# Altium schematic symbol library NUVOTON_NUC230_240_LIBRARY_Library.SchLib: 15 symbols
Pins are listed as number, name and electrical type; pins without a type are passive.

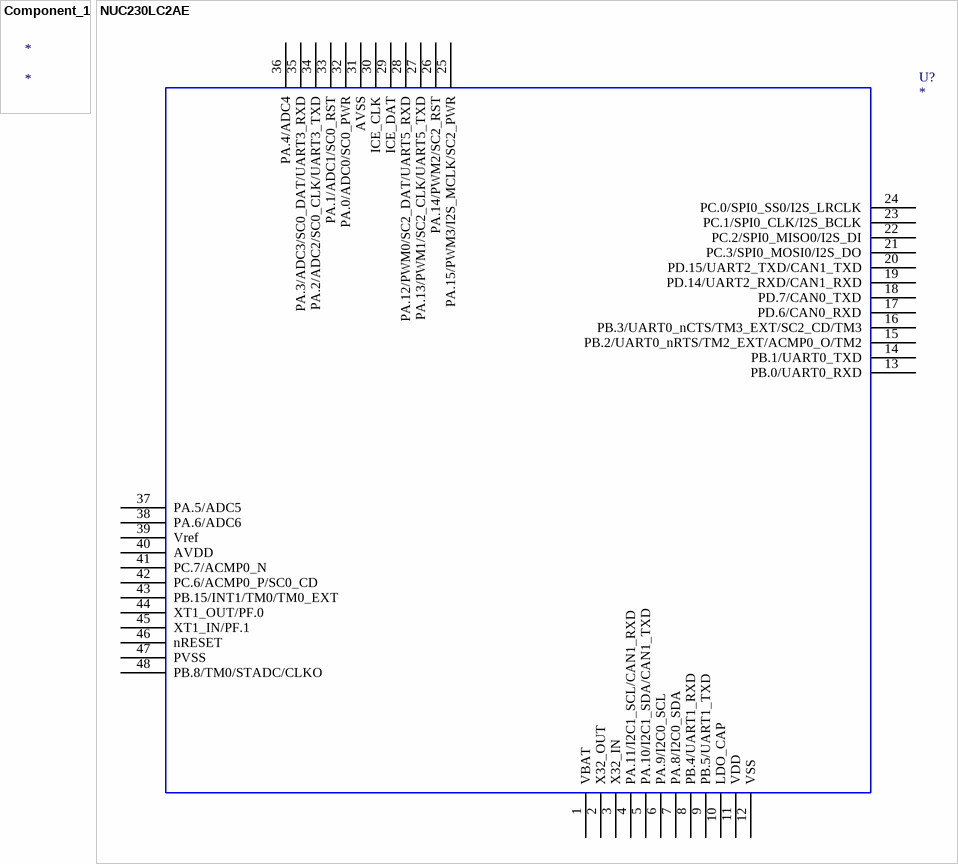
[diagram p0: symbols Component_1 to NUC230LC2AE]

## Component_1
designator *

## NUC230LC2AE
designator U?
OriginalSymbolOrigin: (0,0)
footprint MCU_LQFP_48
pins: 1 VBAT, 2 X32_OUT, 3 X32_IN, 4 PA.11/I2C1_SCL/CAN1_RXD, 5 PA.10/I2C1_SDA/CAN1_TXD, 6 PA.9/I2C0_SCL, 7 PA.8/I2C0_SDA, 8 PB.4/UART1_RXD, 9 PB.5/UART1_TXD, 10 LDO_CAP, 11 VDD, 12 VSS, 13 PB.0/UART0_RXD, 14 PB.1/UART0_TXD, 15 PB.2/UART0_nRTS/TM2_EXT/ACMP0_O/TM2, 16 PB.3/UART0_nCTS/TM3_EXT/SC2_CD/TM3, 17 PD.6/CAN0_RXD, 18 PD.7/CAN0_TXD, 19 PD.14/UART2_RXD/CAN1_RXD, 20 PD.15/UART2_TXD/CAN1_TXD, 21 PC.3/SPI0_MOSI0/I2S_DO, 22 PC.2/SPI0_MISO0/I2S_DI, 23 PC.1/SPI0_CLK/I2S_BCLK, 24 PC.0/SPI0_SS0/I2S_LRCLK, 25 PA.15/PWM3/I2S_MCLK/SC2_PWR, 26 PA.14/PWM2/SC2_RST, 27 PA.13/PWM1/SC2_CLK/UART5_TXD, 28 PA.12/PWM0/SC2_DAT/UART5_RXD, 29 ICE_DAT, 30 ICE_CLK, 31 AVSS, 32 PA.0/ADC0/SC0_PWR, 33 PA.1/ADC1/SC0_RST, 34 PA.2/ADC2/SC0_CLK/UART3_TXD, 35 PA.3/ADC3/SC0_DAT/UART3_RXD, 36 PA.4/ADC4, 37 PA.5/ADC5, 38 PA.6/ADC6, 39 Vref, 40 AVDD, 41 PC.7/ACMP0_N, 42 PC.6/ACMP0_P/SC0_CD, 43 PB.15/INT1/TM0/TM0_EXT, 44 XT1_OUT/PF.0, 45 XT1_IN/PF.1, 46 nRESET, 47 PVSS, 48 PB.8/TM0/STADC/CLKO

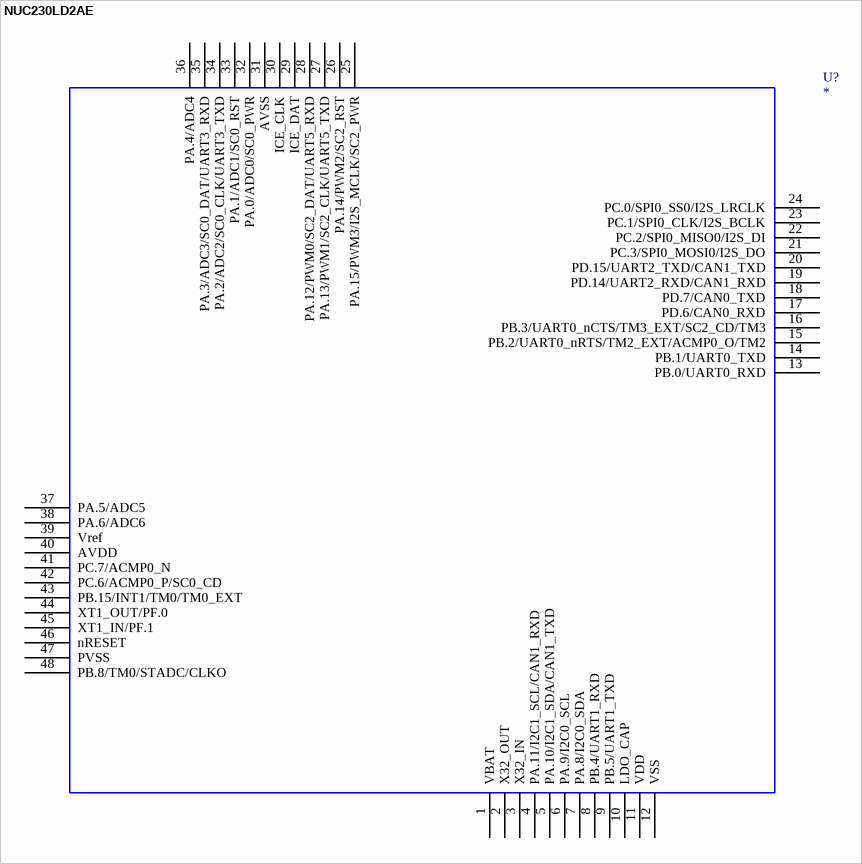
[diagram p1: symbol NUC230LD2AE]

## NUC230LD2AE
designator U?
OriginalSymbolOrigin: (0,0)
footprint MCU_LQFP_48
pins: 1 VBAT, 2 X32_OUT, 3 X32_IN, 4 PA.11/I2C1_SCL/CAN1_RXD, 5 PA.10/I2C1_SDA/CAN1_TXD, 6 PA.9/I2C0_SCL, 7 PA.8/I2C0_SDA, 8 PB.4/UART1_RXD, 9 PB.5/UART1_TXD, 10 LDO_CAP, 11 VDD, 12 VSS, 13 PB.0/UART0_RXD, 14 PB.1/UART0_TXD, 15 PB.2/UART0_nRTS/TM2_EXT/ACMP0_O/TM2, 16 PB.3/UART0_nCTS/TM3_EXT/SC2_CD/TM3, 17 PD.6/CAN0_RXD, 18 PD.7/CAN0_TXD, 19 PD.14/UART2_RXD/CAN1_RXD, 20 PD.15/UART2_TXD/CAN1_TXD, 21 PC.3/SPI0_MOSI0/I2S_DO, 22 PC.2/SPI0_MISO0/I2S_DI, 23 PC.1/SPI0_CLK/I2S_BCLK, 24 PC.0/SPI0_SS0/I2S_LRCLK, 25 PA.15/PWM3/I2S_MCLK/SC2_PWR, 26 PA.14/PWM2/SC2_RST, 27 PA.13/PWM1/SC2_CLK/UART5_TXD, 28 PA.12/PWM0/SC2_DAT/UART5_RXD, 29 ICE_DAT, 30 ICE_CLK, 31 AVSS, 32 PA.0/ADC0/SC0_PWR, 33 PA.1/ADC1/SC0_RST, 34 PA.2/ADC2/SC0_CLK/UART3_TXD, 35 PA.3/ADC3/SC0_DAT/UART3_RXD, 36 PA.4/ADC4, 37 PA.5/ADC5, 38 PA.6/ADC6, 39 Vref, 40 AVDD, 41 PC.7/ACMP0_N, 42 PC.6/ACMP0_P/SC0_CD, 43 PB.15/INT1/TM0/TM0_EXT, 44 XT1_OUT/PF.0, 45 XT1_IN/PF.1, 46 nRESET, 47 PVSS, 48 PB.8/TM0/STADC/CLKO

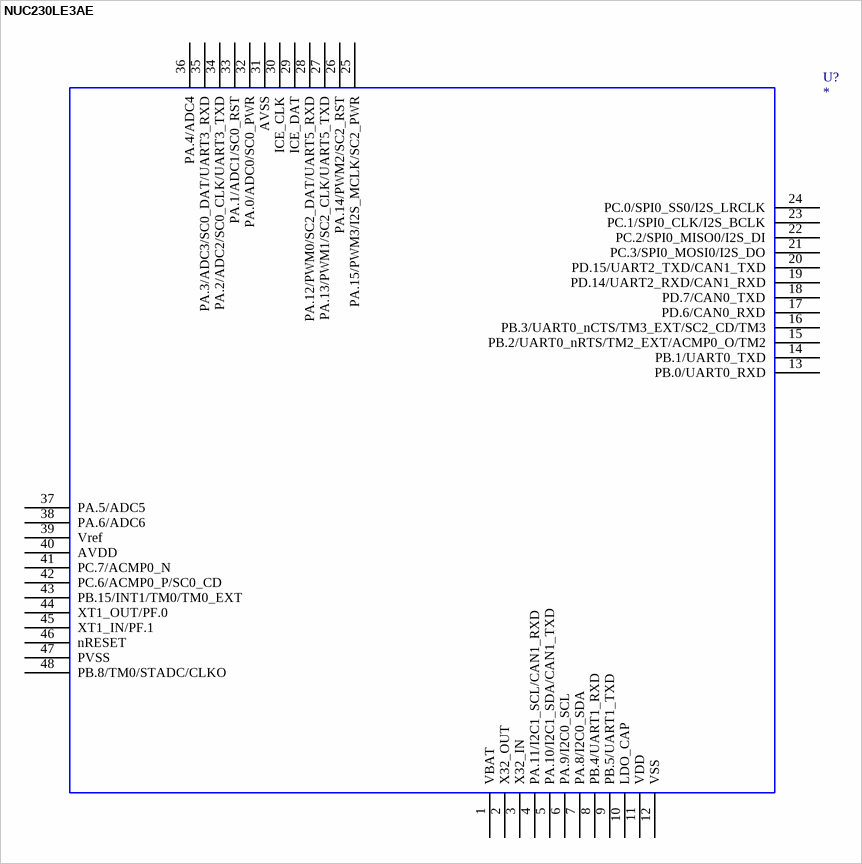
[diagram p2: symbol NUC230LE3AE]

## NUC230LE3AE
designator U?
OriginalSymbolOrigin: (0,0)
footprint MCU_LQFP_48
pins: 1 VBAT, 2 X32_OUT, 3 X32_IN, 4 PA.11/I2C1_SCL/CAN1_RXD, 5 PA.10/I2C1_SDA/CAN1_TXD, 6 PA.9/I2C0_SCL, 7 PA.8/I2C0_SDA, 8 PB.4/UART1_RXD, 9 PB.5/UART1_TXD, 10 LDO_CAP, 11 VDD, 12 VSS, 13 PB.0/UART0_RXD, 14 PB.1/UART0_TXD, 15 PB.2/UART0_nRTS/TM2_EXT/ACMP0_O/TM2, 16 PB.3/UART0_nCTS/TM3_EXT/SC2_CD/TM3, 17 PD.6/CAN0_RXD, 18 PD.7/CAN0_TXD, 19 PD.14/UART2_RXD/CAN1_RXD, 20 PD.15/UART2_TXD/CAN1_TXD, 21 PC.3/SPI0_MOSI0/I2S_DO, 22 PC.2/SPI0_MISO0/I2S_DI, 23 PC.1/SPI0_CLK/I2S_BCLK, 24 PC.0/SPI0_SS0/I2S_LRCLK, 25 PA.15/PWM3/I2S_MCLK/SC2_PWR, 26 PA.14/PWM2/SC2_RST, 27 PA.13/PWM1/SC2_CLK/UART5_TXD, 28 PA.12/PWM0/SC2_DAT/UART5_RXD, 29 ICE_DAT, 30 ICE_CLK, 31 AVSS, 32 PA.0/ADC0/SC0_PWR, 33 PA.1/ADC1/SC0_RST, 34 PA.2/ADC2/SC0_CLK/UART3_TXD, 35 PA.3/ADC3/SC0_DAT/UART3_RXD, 36 PA.4/ADC4, 37 PA.5/ADC5, 38 PA.6/ADC6, 39 Vref, 40 AVDD, 41 PC.7/ACMP0_N, 42 PC.6/ACMP0_P/SC0_CD, 43 PB.15/INT1/TM0/TM0_EXT, 44 XT1_OUT/PF.0, 45 XT1_IN/PF.1, 46 nRESET, 47 PVSS, 48 PB.8/TM0/STADC/CLKO

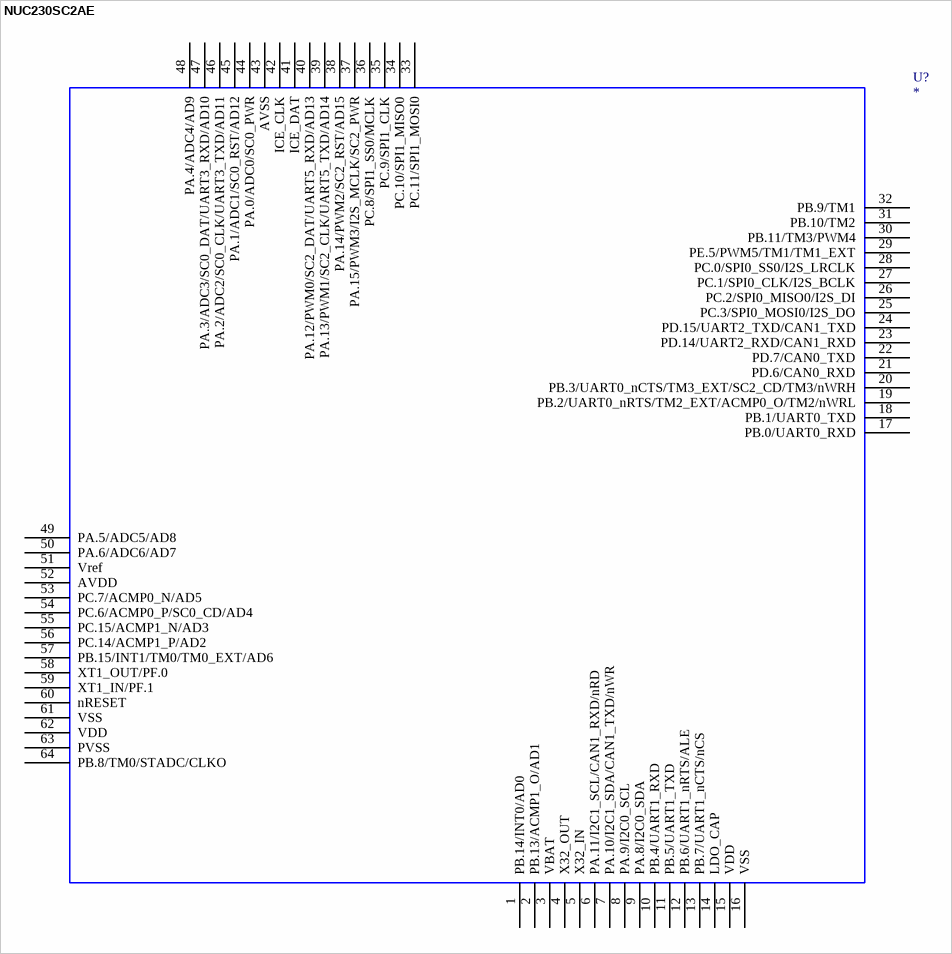
[diagram p3: symbol NUC230SC2AE]

## NUC230SC2AE
designator U?
OriginalSymbolOrigin: (0,0)
footprint MCU_LQFP_64_7x7
pins: 1 PB.14/INT0/AD0, 2 PB.13/ACMP1_O/AD1, 3 VBAT, 4 X32_OUT, 5 X32_IN, 6 PA.11/I2C1_SCL/CAN1_RXD/nRD, 7 PA.10/I2C1_SDA/CAN1_TXD/nWR, 8 PA.9/I2C0_SCL, 9 PA.8/I2C0_SDA, 10 PB.4/UART1_RXD, 11 PB.5/UART1_TXD, 12 PB.6/UART1_nRTS/ALE, 13 PB.7/UART1_nCTS/nCS, 14 LDO_CAP, 15 VDD, 16 VSS, 17 PB.0/UART0_RXD, 18 PB.1/UART0_TXD, 19 PB.2/UART0_nRTS/TM2_EXT/ACMP0_O/TM2/nWRL, 20 PB.3/UART0_nCTS/TM3_EXT/SC2_CD/TM3/nWRH, 21 PD.6/CAN0_RXD, 22 PD.7/CAN0_TXD, 23 PD.14/UART2_RXD/CAN1_RXD, 24 PD.15/UART2_TXD/CAN1_TXD, 25 PC.3/SPI0_MOSI0/I2S_DO, 26 PC.2/SPI0_MISO0/I2S_DI, 27 PC.1/SPI0_CLK/I2S_BCLK, 28 PC.0/SPI0_SS0/I2S_LRCLK, 29 PE.5/PWM5/TM1/TM1_EXT, 30 PB.11/TM3/PWM4, 31 PB.10/TM2, 32 PB.9/TM1, 33 PC.11/SPI1_MOSI0, 34 PC.10/SPI1_MISO0, 35 PC.9/SPI1_CLK, 36 PC.8/SPI1_SS0/MCLK, 37 PA.15/PWM3/I2S_MCLK/SC2_PWR, 38 PA.14/PWM2/SC2_RST/AD15, 39 PA.13/PWM1/SC2_CLK/UART5_TXD/AD14, 40 PA.12/PWM0/SC2_DAT/UART5_RXD/AD13, 41 ICE_DAT, 42 ICE_CLK, 43 AVSS, 44 PA.0/ADC0/SC0_PWR, 45 PA.1/ADC1/SC0_RST/AD12, 46 PA.2/ADC2/SC0_CLK/UART3_TXD/AD11, 47 PA.3/ADC3/SC0_DAT/UART3_RXD/AD10, 48 PA.4/ADC4/AD9, 49 PA.5/ADC5/AD8, 50 PA.6/ADC6/AD7, 51 Vref, 52 AVDD, 53 PC.7/ACMP0_N/AD5, 54 PC.6/ACMP0_P/SC0_CD/AD4, 55 PC.15/ACMP1_N/AD3, 56 PC.14/ACMP1_P/AD2, 57 PB.15/INT1/TM0/TM0_EXT/AD6, 58 XT1_OUT/PF.0, 59 XT1_IN/PF.1, 60 nRESET, 61 VSS, 62 VDD, 63 PVSS, 64 PB.8/TM0/STADC/CLKO

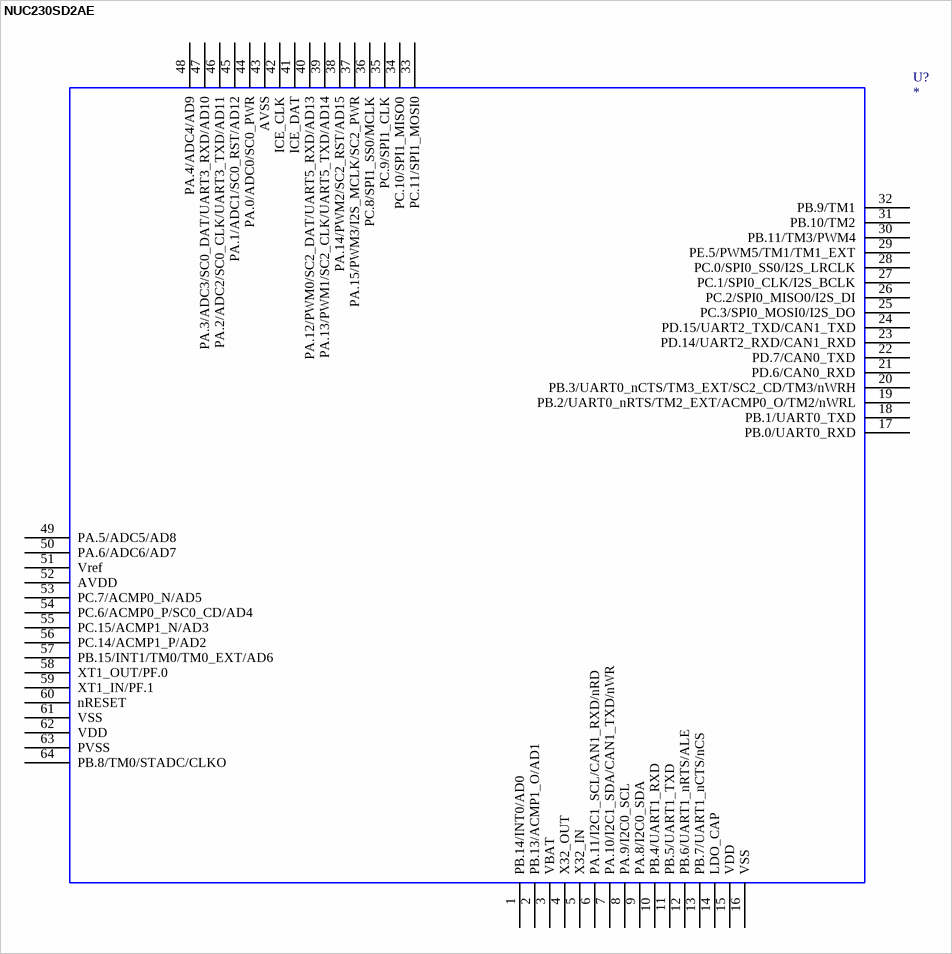
[diagram p4: symbol NUC230SD2AE]

## NUC230SD2AE
designator U?
OriginalSymbolOrigin: (0,0)
footprint MCU_LQFP_64_7x7
pins: 1 PB.14/INT0/AD0, 2 PB.13/ACMP1_O/AD1, 3 VBAT, 4 X32_OUT, 5 X32_IN, 6 PA.11/I2C1_SCL/CAN1_RXD/nRD, 7 PA.10/I2C1_SDA/CAN1_TXD/nWR, 8 PA.9/I2C0_SCL, 9 PA.8/I2C0_SDA, 10 PB.4/UART1_RXD, 11 PB.5/UART1_TXD, 12 PB.6/UART1_nRTS/ALE, 13 PB.7/UART1_nCTS/nCS, 14 LDO_CAP, 15 VDD, 16 VSS, 17 PB.0/UART0_RXD, 18 PB.1/UART0_TXD, 19 PB.2/UART0_nRTS/TM2_EXT/ACMP0_O/TM2/nWRL, 20 PB.3/UART0_nCTS/TM3_EXT/SC2_CD/TM3/nWRH, 21 PD.6/CAN0_RXD, 22 PD.7/CAN0_TXD, 23 PD.14/UART2_RXD/CAN1_RXD, 24 PD.15/UART2_TXD/CAN1_TXD, 25 PC.3/SPI0_MOSI0/I2S_DO, 26 PC.2/SPI0_MISO0/I2S_DI, 27 PC.1/SPI0_CLK/I2S_BCLK, 28 PC.0/SPI0_SS0/I2S_LRCLK, 29 PE.5/PWM5/TM1/TM1_EXT, 30 PB.11/TM3/PWM4, 31 PB.10/TM2, 32 PB.9/TM1, 33 PC.11/SPI1_MOSI0, 34 PC.10/SPI1_MISO0, 35 PC.9/SPI1_CLK, 36 PC.8/SPI1_SS0/MCLK, 37 PA.15/PWM3/I2S_MCLK/SC2_PWR, 38 PA.14/PWM2/SC2_RST/AD15, 39 PA.13/PWM1/SC2_CLK/UART5_TXD/AD14, 40 PA.12/PWM0/SC2_DAT/UART5_RXD/AD13, 41 ICE_DAT, 42 ICE_CLK, 43 AVSS, 44 PA.0/ADC0/SC0_PWR, 45 PA.1/ADC1/SC0_RST/AD12, 46 PA.2/ADC2/SC0_CLK/UART3_TXD/AD11, 47 PA.3/ADC3/SC0_DAT/UART3_RXD/AD10, 48 PA.4/ADC4/AD9, 49 PA.5/ADC5/AD8, 50 PA.6/ADC6/AD7, 51 Vref, 52 AVDD, 53 PC.7/ACMP0_N/AD5, 54 PC.6/ACMP0_P/SC0_CD/AD4, 55 PC.15/ACMP1_N/AD3, 56 PC.14/ACMP1_P/AD2, 57 PB.15/INT1/TM0/TM0_EXT/AD6, 58 XT1_OUT/PF.0, 59 XT1_IN/PF.1, 60 nRESET, 61 VSS, 62 VDD, 63 PVSS, 64 PB.8/TM0/STADC/CLKO

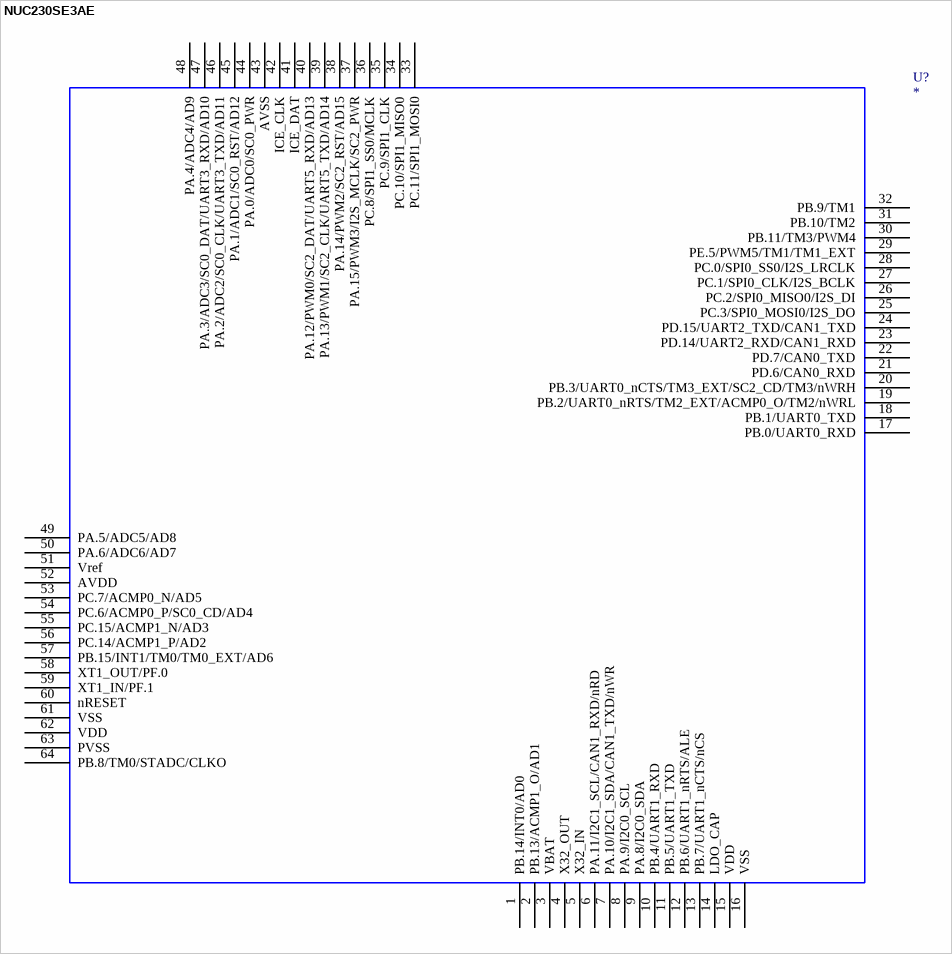
[diagram p5: symbol NUC230SE3AE]

## NUC230SE3AE
designator U?
OriginalSymbolOrigin: (0,0)
footprint MCU_LQFP_64_7x7
pins: 1 PB.14/INT0/AD0, 2 PB.13/ACMP1_O/AD1, 3 VBAT, 4 X32_OUT, 5 X32_IN, 6 PA.11/I2C1_SCL/CAN1_RXD/nRD, 7 PA.10/I2C1_SDA/CAN1_TXD/nWR, 8 PA.9/I2C0_SCL, 9 PA.8/I2C0_SDA, 10 PB.4/UART1_RXD, 11 PB.5/UART1_TXD, 12 PB.6/UART1_nRTS/ALE, 13 PB.7/UART1_nCTS/nCS, 14 LDO_CAP, 15 VDD, 16 VSS, 17 PB.0/UART0_RXD, 18 PB.1/UART0_TXD, 19 PB.2/UART0_nRTS/TM2_EXT/ACMP0_O/TM2/nWRL, 20 PB.3/UART0_nCTS/TM3_EXT/SC2_CD/TM3/nWRH, 21 PD.6/CAN0_RXD, 22 PD.7/CAN0_TXD, 23 PD.14/UART2_RXD/CAN1_RXD, 24 PD.15/UART2_TXD/CAN1_TXD, 25 PC.3/SPI0_MOSI0/I2S_DO, 26 PC.2/SPI0_MISO0/I2S_DI, 27 PC.1/SPI0_CLK/I2S_BCLK, 28 PC.0/SPI0_SS0/I2S_LRCLK, 29 PE.5/PWM5/TM1/TM1_EXT, 30 PB.11/TM3/PWM4, 31 PB.10/TM2, 32 PB.9/TM1, 33 PC.11/SPI1_MOSI0, 34 PC.10/SPI1_MISO0, 35 PC.9/SPI1_CLK, 36 PC.8/SPI1_SS0/MCLK, 37 PA.15/PWM3/I2S_MCLK/SC2_PWR, 38 PA.14/PWM2/SC2_RST/AD15, 39 PA.13/PWM1/SC2_CLK/UART5_TXD/AD14, 40 PA.12/PWM0/SC2_DAT/UART5_RXD/AD13, 41 ICE_DAT, 42 ICE_CLK, 43 AVSS, 44 PA.0/ADC0/SC0_PWR, 45 PA.1/ADC1/SC0_RST/AD12, 46 PA.2/ADC2/SC0_CLK/UART3_TXD/AD11, 47 PA.3/ADC3/SC0_DAT/UART3_RXD/AD10, 48 PA.4/ADC4/AD9, 49 PA.5/ADC5/AD8, 50 PA.6/ADC6/AD7, 51 Vref, 52 AVDD, 53 PC.7/ACMP0_N/AD5, 54 PC.6/ACMP0_P/SC0_CD/AD4, 55 PC.15/ACMP1_N/AD3, 56 PC.14/ACMP1_P/AD2, 57 PB.15/INT1/TM0/TM0_EXT/AD6, 58 XT1_OUT/PF.0, 59 XT1_IN/PF.1, 60 nRESET, 61 VSS, 62 VDD, 63 PVSS, 64 PB.8/TM0/STADC/CLKO

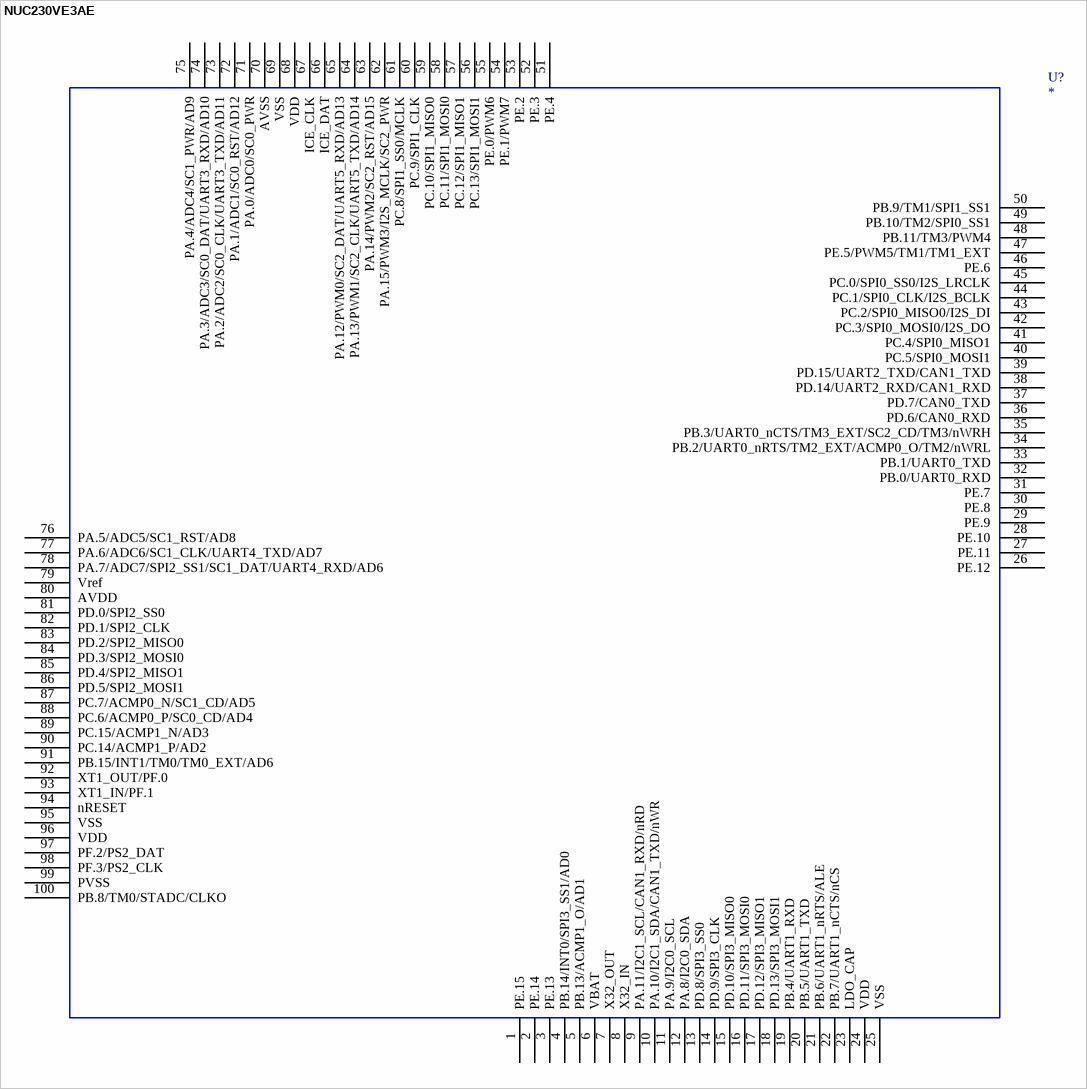
[diagram p6: symbol NUC230VE3AE]

## NUC230VE3AE
designator U?
OriginalSymbolOrigin: (0,0)
footprint MCU_LQFP_100
pins: 1 PE.15, 2 PE.14, 3 PE.13, 4 PB.14/INT0/SPI3_SS1/AD0, 5 PB.13/ACMP1_O/AD1, 6 VBAT, 7 X32_OUT, 8 X32_IN, 9 PA.11/I2C1_SCL/CAN1_RXD/nRD, 10 PA.10/I2C1_SDA/CAN1_TXD/nWR, 11 PA.9/I2C0_SCL, 12 PA.8/I2C0_SDA, 13 PD.8/SPI3_SS0, 14 PD.9/SPI3_CLK, 15 PD.10/SPI3_MISO0, 16 PD.11/SPI3_MOSI0, 17 PD.12/SPI3_MISO1, 18 PD.13/SPI3_MOSI1, 19 PB.4/UART1_RXD, 20 PB.5/UART1_TXD, 21 PB.6/UART1_nRTS/ALE, 22 PB.7/UART1_nCTS/nCS, 23 LDO_CAP, 24 VDD, 25 VSS, 26 PE.12, 27 PE.11, 28 PE.10, 29 PE.9, 30 PE.8, 31 PE.7, 32 PB.0/UART0_RXD, 33 PB.1/UART0_TXD, 34 PB.2/UART0_nRTS/TM2_EXT/ACMP0_O/TM2/nWRL, 35 PB.3/UART0_nCTS/TM3_EXT/SC2_CD/TM3/nWRH, 36 PD.6/CAN0_RXD, 37 PD.7/CAN0_TXD, 38 PD.14/UART2_RXD/CAN1_RXD, 39 PD.15/UART2_TXD/CAN1_TXD, 40 PC.5/SPI0_MOSI1, 41 PC.4/SPI0_MISO1, 42 PC.3/SPI0_MOSI0/I2S_DO, 43 PC.2/SPI0_MISO0/I2S_DI, 44 PC.1/SPI0_CLK/I2S_BCLK, 45 PC.0/SPI0_SS0/I2S_LRCLK, 46 PE.6, 47 PE.5/PWM5/TM1/TM1_EXT, 48 PB.11/TM3/PWM4, 49 PB.10/TM2/SPI0_SS1, 50 PB.9/TM1/SPI1_SS1, 51 PE.4, 52 PE.3, 53 PE.2, 54 PE.1/PWM7, 55 PE.0/PWM6, 56 PC.13/SPI1_MOSI1, 57 PC.12/SPI1_MISO1, 58 PC.11/SPI1_MOSI0, 59 PC.10/SPI1_MISO0, 60 PC.9/SPI1_CLK, 61 PC.8/SPI1_SS0/MCLK, 62 PA.15/PWM3/I2S_MCLK/SC2_PWR, 63 PA.14/PWM2/SC2_RST/AD15, 64 PA.13/PWM1/SC2_CLK/UART5_TXD/AD14, 65 PA.12/PWM0/SC2_DAT/UART5_RXD/AD13, 66 ICE_DAT, 67 ICE_CLK, 68 VDD, 69 VSS, 70 AVSS, 71 PA.0/ADC0/SC0_PWR, 72 PA.1/ADC1/SC0_RST/AD12, 73 PA.2/ADC2/SC0_CLK/UART3_TXD/AD11, 74 PA.3/ADC3/SC0_DAT/UART3_RXD/AD10, 75 PA.4/ADC4/SC1_PWR/AD9, 76 PA.5/ADC5/SC1_RST/AD8, 77 PA.6/ADC6/SC1_CLK/UART4_TXD/AD7, 78 PA.7/ADC7/SPI2_SS1/SC1_DAT/UART4_RXD/AD6, 79 Vref, 80 AVDD, 81 PD.0/SPI2_SS0, 82 PD.1/SPI2_CLK, 83 PD.2/SPI2_MISO0, 84 PD.3/SPI2_MOSI0, 85 PD.4/SPI2_MISO1, 86 PD.5/SPI2_MOSI1, 87 PC.7/ACMP0_N/SC1_CD/AD5, 88 PC.6/ACMP0_P/SC0_CD/AD4, 89 PC.15/ACMP1_N/AD3, 90 PC.14/ACMP1_P/AD2, 91 PB.15/INT1/TM0/TM0_EXT/AD6, 92 XT1_OUT/PF.0, 93 XT1_IN/PF.1, 94 nRESET, 95 VSS, 96 VDD, 97 PF.2/PS2_DAT, 98 PF.3/PS2_CLK, 99 PVSS, 100 PB.8/TM0/STADC/CLKO

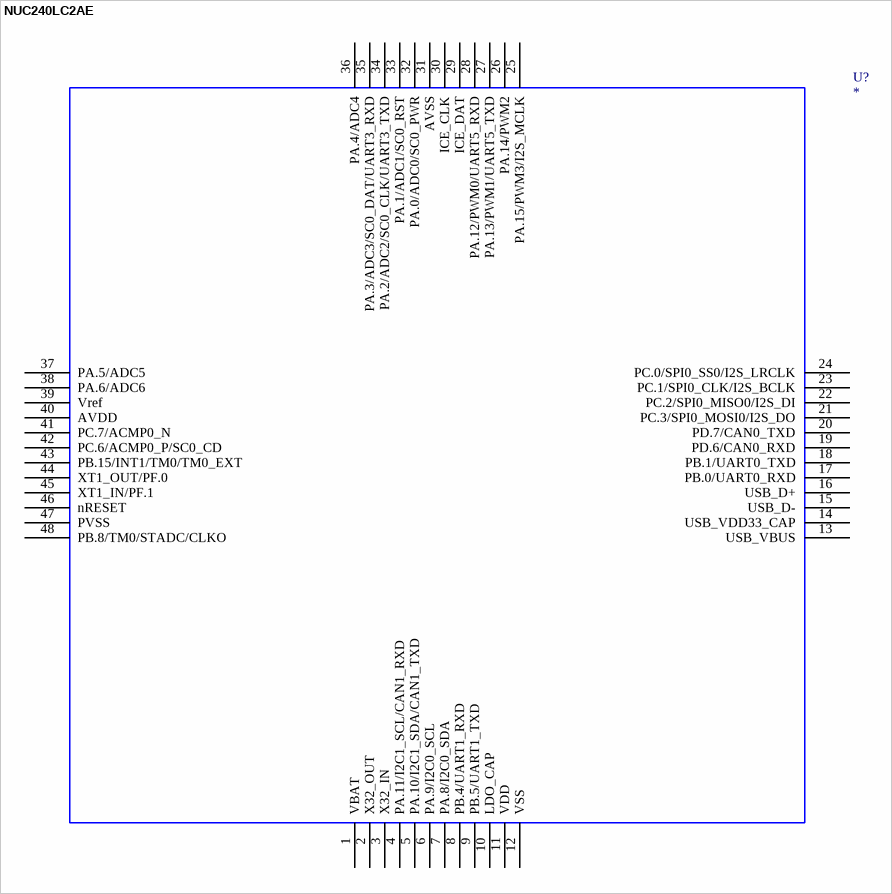
[diagram p7: symbol NUC240LC2AE]

## NUC240LC2AE
designator U?
OriginalSymbolOrigin: (0,0)
footprint MCU_LQFP_48
pins: 1 VBAT, 2 X32_OUT, 3 X32_IN, 4 PA.11/I2C1_SCL/CAN1_RXD, 5 PA.10/I2C1_SDA/CAN1_TXD, 6 PA.9/I2C0_SCL, 7 PA.8/I2C0_SDA, 8 PB.4/UART1_RXD, 9 PB.5/UART1_TXD, 10 LDO_CAP, 11 VDD, 12 VSS, 13 USB_VBUS, 14 USB_VDD33_CAP, 15 USB_D-, 16 USB_D+, 17 PB.0/UART0_RXD, 18 PB.1/UART0_TXD, 19 PD.6/CAN0_RXD, 20 PD.7/CAN0_TXD, 21 PC.3/SPI0_MOSI0/I2S_DO, 22 PC.2/SPI0_MISO0/I2S_DI, 23 PC.1/SPI0_CLK/I2S_BCLK, 24 PC.0/SPI0_SS0/I2S_LRCLK, 25 PA.15/PWM3/I2S_MCLK, 26 PA.14/PWM2, 27 PA.13/PWM1/UART5_TXD, 28 PA.12/PWM0/UART5_RXD, 29 ICE_DAT, 30 ICE_CLK, 31 AVSS, 32 PA.0/ADC0/SC0_PWR, 33 PA.1/ADC1/SC0_RST, 34 PA.2/ADC2/SC0_CLK/UART3_TXD, 35 PA.3/ADC3/SC0_DAT/UART3_RXD, 36 PA.4/ADC4, 37 PA.5/ADC5, 38 PA.6/ADC6, 39 Vref, 40 AVDD, 41 PC.7/ACMP0_N, 42 PC.6/ACMP0_P/SC0_CD, 43 PB.15/INT1/TM0/TM0_EXT, 44 XT1_OUT/PF.0, 45 XT1_IN/PF.1, 46 nRESET, 47 PVSS, 48 PB.8/TM0/STADC/CLKO

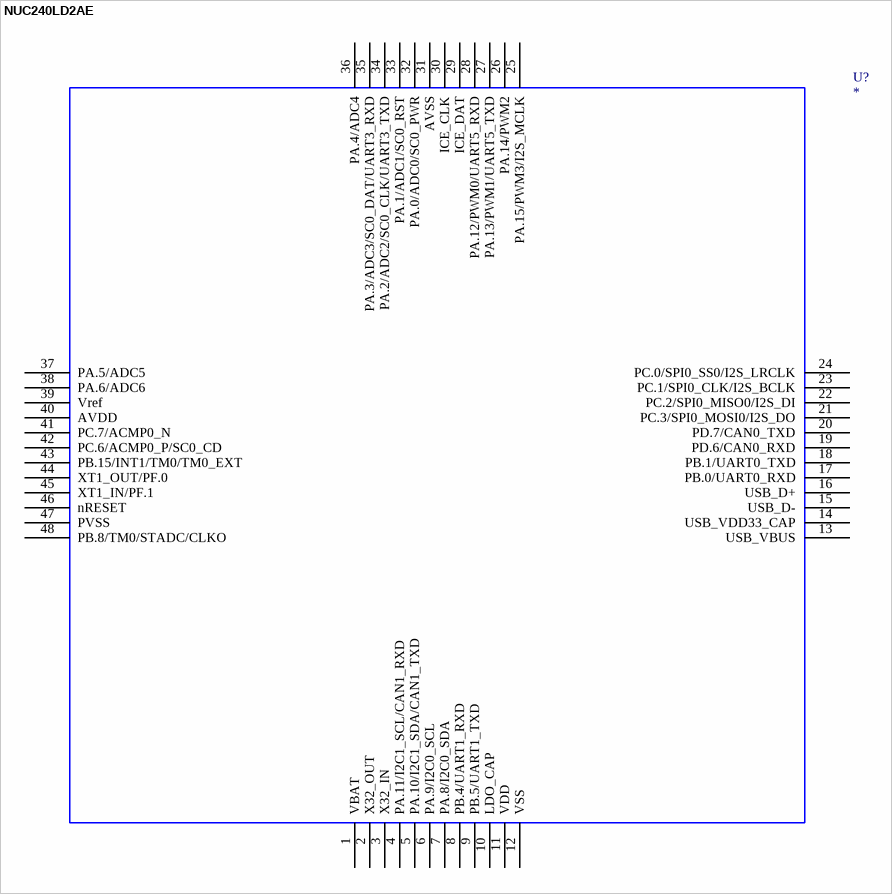
[diagram p8: symbol NUC240LD2AE]

## NUC240LD2AE
designator U?
OriginalSymbolOrigin: (0,0)
footprint MCU_LQFP_48
pins: 1 VBAT, 2 X32_OUT, 3 X32_IN, 4 PA.11/I2C1_SCL/CAN1_RXD, 5 PA.10/I2C1_SDA/CAN1_TXD, 6 PA.9/I2C0_SCL, 7 PA.8/I2C0_SDA, 8 PB.4/UART1_RXD, 9 PB.5/UART1_TXD, 10 LDO_CAP, 11 VDD, 12 VSS, 13 USB_VBUS, 14 USB_VDD33_CAP, 15 USB_D-, 16 USB_D+, 17 PB.0/UART0_RXD, 18 PB.1/UART0_TXD, 19 PD.6/CAN0_RXD, 20 PD.7/CAN0_TXD, 21 PC.3/SPI0_MOSI0/I2S_DO, 22 PC.2/SPI0_MISO0/I2S_DI, 23 PC.1/SPI0_CLK/I2S_BCLK, 24 PC.0/SPI0_SS0/I2S_LRCLK, 25 PA.15/PWM3/I2S_MCLK, 26 PA.14/PWM2, 27 PA.13/PWM1/UART5_TXD, 28 PA.12/PWM0/UART5_RXD, 29 ICE_DAT, 30 ICE_CLK, 31 AVSS, 32 PA.0/ADC0/SC0_PWR, 33 PA.1/ADC1/SC0_RST, 34 PA.2/ADC2/SC0_CLK/UART3_TXD, 35 PA.3/ADC3/SC0_DAT/UART3_RXD, 36 PA.4/ADC4, 37 PA.5/ADC5, 38 PA.6/ADC6, 39 Vref, 40 AVDD, 41 PC.7/ACMP0_N, 42 PC.6/ACMP0_P/SC0_CD, 43 PB.15/INT1/TM0/TM0_EXT, 44 XT1_OUT/PF.0, 45 XT1_IN/PF.1, 46 nRESET, 47 PVSS, 48 PB.8/TM0/STADC/CLKO

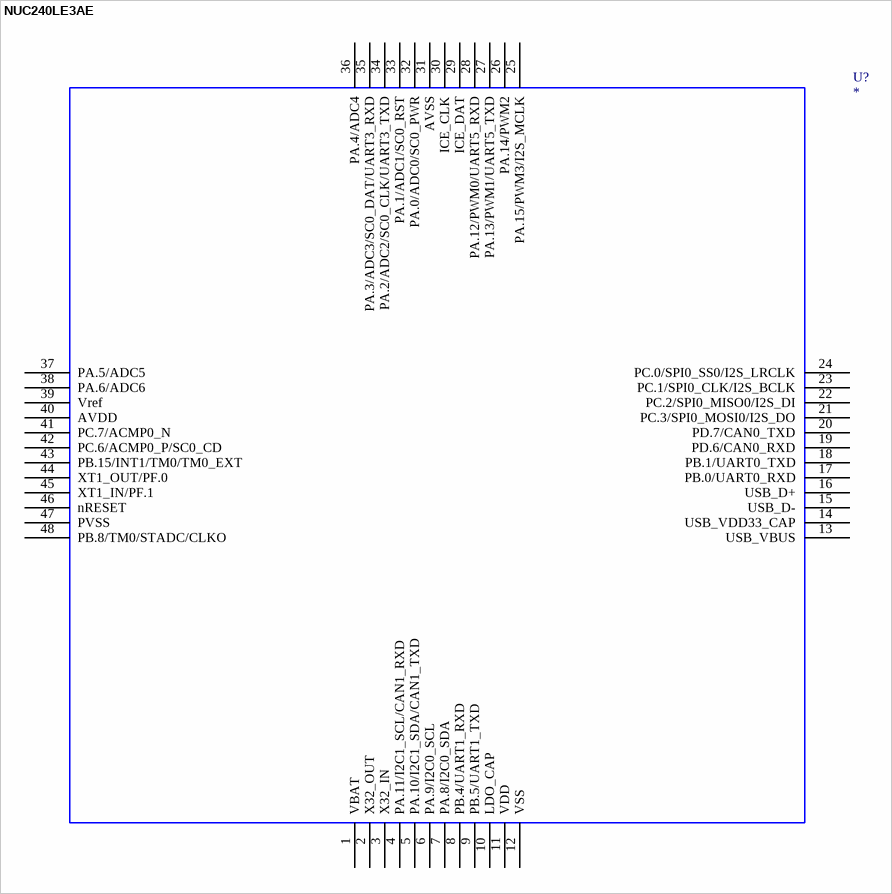
[diagram p9: symbol NUC240LE3AE]

## NUC240LE3AE
designator U?
OriginalSymbolOrigin: (0,0)
footprint MCU_LQFP_48
pins: 1 VBAT, 2 X32_OUT, 3 X32_IN, 4 PA.11/I2C1_SCL/CAN1_RXD, 5 PA.10/I2C1_SDA/CAN1_TXD, 6 PA.9/I2C0_SCL, 7 PA.8/I2C0_SDA, 8 PB.4/UART1_RXD, 9 PB.5/UART1_TXD, 10 LDO_CAP, 11 VDD, 12 VSS, 13 USB_VBUS, 14 USB_VDD33_CAP, 15 USB_D-, 16 USB_D+, 17 PB.0/UART0_RXD, 18 PB.1/UART0_TXD, 19 PD.6/CAN0_RXD, 20 PD.7/CAN0_TXD, 21 PC.3/SPI0_MOSI0/I2S_DO, 22 PC.2/SPI0_MISO0/I2S_DI, 23 PC.1/SPI0_CLK/I2S_BCLK, 24 PC.0/SPI0_SS0/I2S_LRCLK, 25 PA.15/PWM3/I2S_MCLK, 26 PA.14/PWM2, 27 PA.13/PWM1/UART5_TXD, 28 PA.12/PWM0/UART5_RXD, 29 ICE_DAT, 30 ICE_CLK, 31 AVSS, 32 PA.0/ADC0/SC0_PWR, 33 PA.1/ADC1/SC0_RST, 34 PA.2/ADC2/SC0_CLK/UART3_TXD, 35 PA.3/ADC3/SC0_DAT/UART3_RXD, 36 PA.4/ADC4, 37 PA.5/ADC5, 38 PA.6/ADC6, 39 Vref, 40 AVDD, 41 PC.7/ACMP0_N, 42 PC.6/ACMP0_P/SC0_CD, 43 PB.15/INT1/TM0/TM0_EXT, 44 XT1_OUT/PF.0, 45 XT1_IN/PF.1, 46 nRESET, 47 PVSS, 48 PB.8/TM0/STADC/CLKO

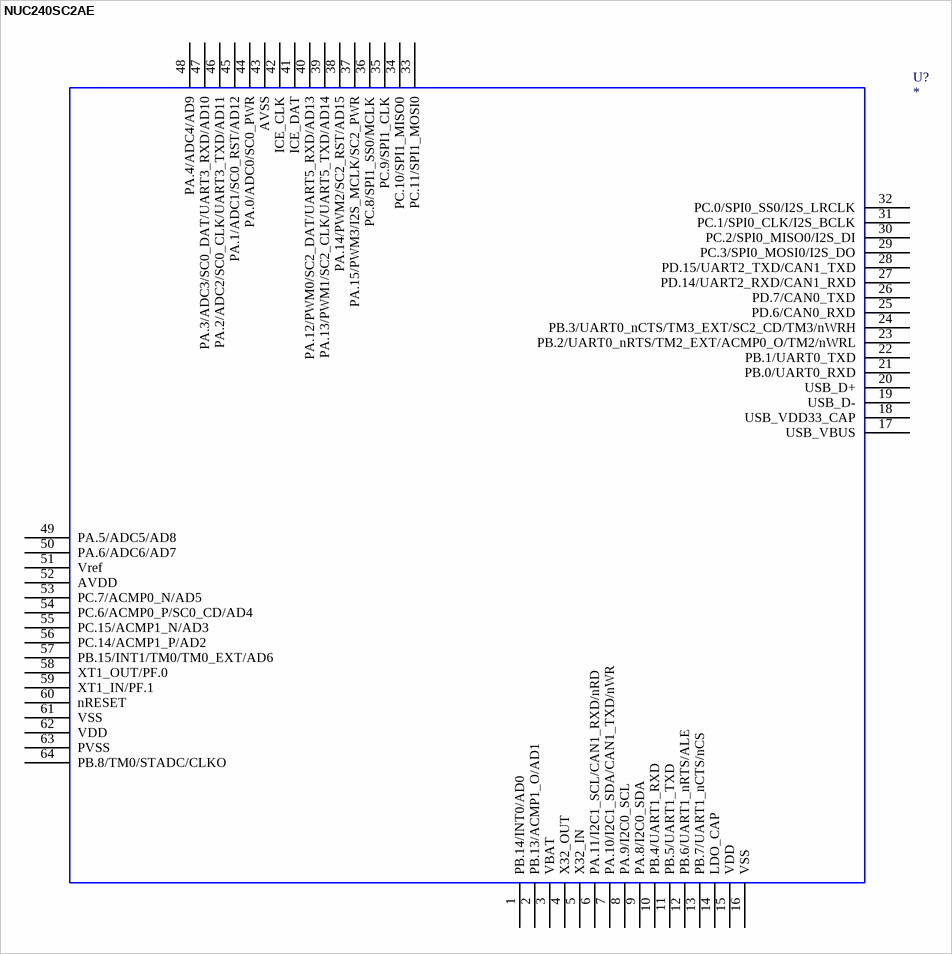
[diagram p10: symbol NUC240SC2AE]

## NUC240SC2AE
designator U?
OriginalSymbolOrigin: (0,0)
footprint MCU_LQFP_64_7x7
pins: 1 PB.14/INT0/AD0, 2 PB.13/ACMP1_O/AD1, 3 VBAT, 4 X32_OUT, 5 X32_IN, 6 PA.11/I2C1_SCL/CAN1_RXD/nRD, 7 PA.10/I2C1_SDA/CAN1_TXD/nWR, 8 PA.9/I2C0_SCL, 9 PA.8/I2C0_SDA, 10 PB.4/UART1_RXD, 11 PB.5/UART1_TXD, 12 PB.6/UART1_nRTS/ALE, 13 PB.7/UART1_nCTS/nCS, 14 LDO_CAP, 15 VDD, 16 VSS, 17 USB_VBUS, 18 USB_VDD33_CAP, 19 USB_D-, 20 USB_D+, 21 PB.0/UART0_RXD, 22 PB.1/UART0_TXD, 23 PB.2/UART0_nRTS/TM2_EXT/ACMP0_O/TM2/nWRL, 24 PB.3/UART0_nCTS/TM3_EXT/SC2_CD/TM3/nWRH, 25 PD.6/CAN0_RXD, 26 PD.7/CAN0_TXD, 27 PD.14/UART2_RXD/CAN1_RXD, 28 PD.15/UART2_TXD/CAN1_TXD, 29 PC.3/SPI0_MOSI0/I2S_DO, 30 PC.2/SPI0_MISO0/I2S_DI, 31 PC.1/SPI0_CLK/I2S_BCLK, 32 PC.0/SPI0_SS0/I2S_LRCLK, 33 PC.11/SPI1_MOSI0, 34 PC.10/SPI1_MISO0, 35 PC.9/SPI1_CLK, 36 PC.8/SPI1_SS0/MCLK, 37 PA.15/PWM3/I2S_MCLK/SC2_PWR, 38 PA.14/PWM2/SC2_RST/AD15, 39 PA.13/PWM1/SC2_CLK/UART5_TXD/AD14, 40 PA.12/PWM0/SC2_DAT/UART5_RXD/AD13, 41 ICE_DAT, 42 ICE_CLK, 43 AVSS, 44 PA.0/ADC0/SC0_PWR, 45 PA.1/ADC1/SC0_RST/AD12, 46 PA.2/ADC2/SC0_CLK/UART3_TXD/AD11, 47 PA.3/ADC3/SC0_DAT/UART3_RXD/AD10, 48 PA.4/ADC4/AD9, 49 PA.5/ADC5/AD8, 50 PA.6/ADC6/AD7, 51 Vref, 52 AVDD, 53 PC.7/ACMP0_N/AD5, 54 PC.6/ACMP0_P/SC0_CD/AD4, 55 PC.15/ACMP1_N/AD3, 56 PC.14/ACMP1_P/AD2, 57 PB.15/INT1/TM0/TM0_EXT/AD6, 58 XT1_OUT/PF.0, 59 XT1_IN/PF.1, 60 nRESET, 61 VSS, 62 VDD, 63 PVSS, 64 PB.8/TM0/STADC/CLKO

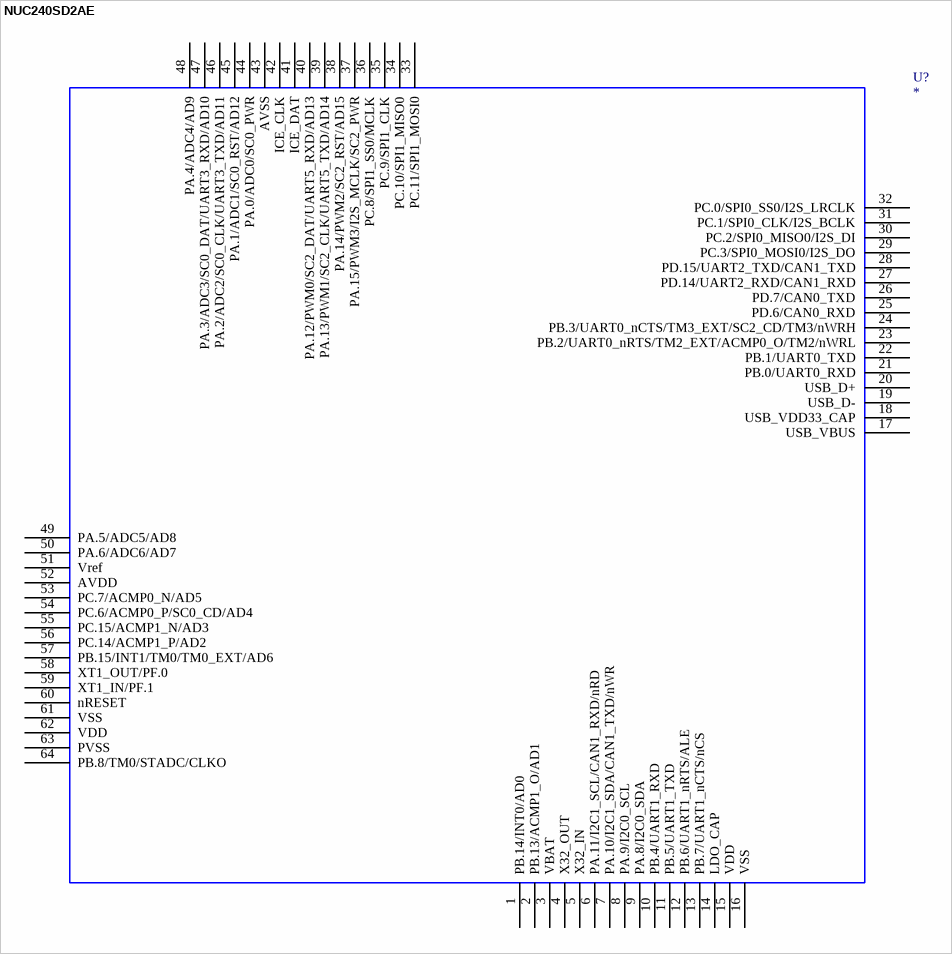
[diagram p11: symbol NUC240SD2AE]

## NUC240SD2AE
designator U?
OriginalSymbolOrigin: (0,0)
footprint MCU_LQFP_64_7x7
pins: 1 PB.14/INT0/AD0, 2 PB.13/ACMP1_O/AD1, 3 VBAT, 4 X32_OUT, 5 X32_IN, 6 PA.11/I2C1_SCL/CAN1_RXD/nRD, 7 PA.10/I2C1_SDA/CAN1_TXD/nWR, 8 PA.9/I2C0_SCL, 9 PA.8/I2C0_SDA, 10 PB.4/UART1_RXD, 11 PB.5/UART1_TXD, 12 PB.6/UART1_nRTS/ALE, 13 PB.7/UART1_nCTS/nCS, 14 LDO_CAP, 15 VDD, 16 VSS, 17 USB_VBUS, 18 USB_VDD33_CAP, 19 USB_D-, 20 USB_D+, 21 PB.0/UART0_RXD, 22 PB.1/UART0_TXD, 23 PB.2/UART0_nRTS/TM2_EXT/ACMP0_O/TM2/nWRL, 24 PB.3/UART0_nCTS/TM3_EXT/SC2_CD/TM3/nWRH, 25 PD.6/CAN0_RXD, 26 PD.7/CAN0_TXD, 27 PD.14/UART2_RXD/CAN1_RXD, 28 PD.15/UART2_TXD/CAN1_TXD, 29 PC.3/SPI0_MOSI0/I2S_DO, 30 PC.2/SPI0_MISO0/I2S_DI, 31 PC.1/SPI0_CLK/I2S_BCLK, 32 PC.0/SPI0_SS0/I2S_LRCLK, 33 PC.11/SPI1_MOSI0, 34 PC.10/SPI1_MISO0, 35 PC.9/SPI1_CLK, 36 PC.8/SPI1_SS0/MCLK, 37 PA.15/PWM3/I2S_MCLK/SC2_PWR, 38 PA.14/PWM2/SC2_RST/AD15, 39 PA.13/PWM1/SC2_CLK/UART5_TXD/AD14, 40 PA.12/PWM0/SC2_DAT/UART5_RXD/AD13, 41 ICE_DAT, 42 ICE_CLK, 43 AVSS, 44 PA.0/ADC0/SC0_PWR, 45 PA.1/ADC1/SC0_RST/AD12, 46 PA.2/ADC2/SC0_CLK/UART3_TXD/AD11, 47 PA.3/ADC3/SC0_DAT/UART3_RXD/AD10, 48 PA.4/ADC4/AD9, 49 PA.5/ADC5/AD8, 50 PA.6/ADC6/AD7, 51 Vref, 52 AVDD, 53 PC.7/ACMP0_N/AD5, 54 PC.6/ACMP0_P/SC0_CD/AD4, 55 PC.15/ACMP1_N/AD3, 56 PC.14/ACMP1_P/AD2, 57 PB.15/INT1/TM0/TM0_EXT/AD6, 58 XT1_OUT/PF.0, 59 XT1_IN/PF.1, 60 nRESET, 61 VSS, 62 VDD, 63 PVSS, 64 PB.8/TM0/STADC/CLKO

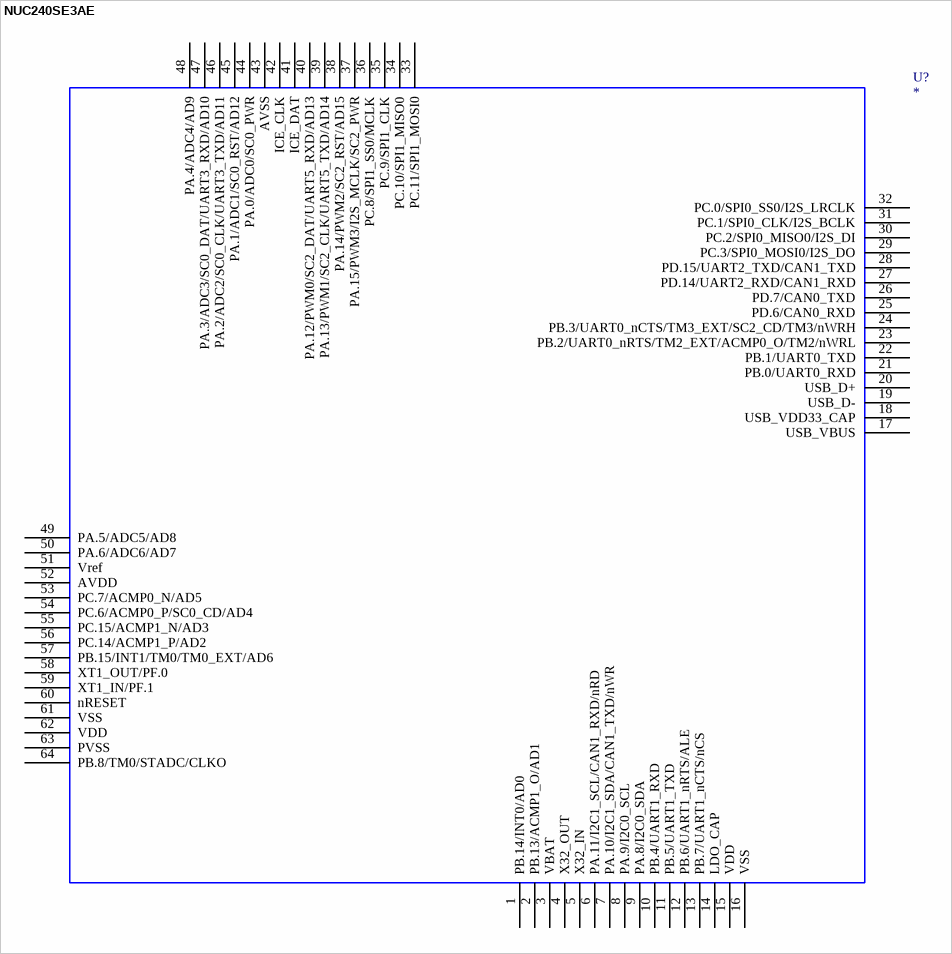
[diagram p12: symbol NUC240SE3AE]

## NUC240SE3AE
designator U?
OriginalSymbolOrigin: (0,0)
footprint MCU_LQFP_64_7x7
pins: 1 PB.14/INT0/AD0, 2 PB.13/ACMP1_O/AD1, 3 VBAT, 4 X32_OUT, 5 X32_IN, 6 PA.11/I2C1_SCL/CAN1_RXD/nRD, 7 PA.10/I2C1_SDA/CAN1_TXD/nWR, 8 PA.9/I2C0_SCL, 9 PA.8/I2C0_SDA, 10 PB.4/UART1_RXD, 11 PB.5/UART1_TXD, 12 PB.6/UART1_nRTS/ALE, 13 PB.7/UART1_nCTS/nCS, 14 LDO_CAP, 15 VDD, 16 VSS, 17 USB_VBUS, 18 USB_VDD33_CAP, 19 USB_D-, 20 USB_D+, 21 PB.0/UART0_RXD, 22 PB.1/UART0_TXD, 23 PB.2/UART0_nRTS/TM2_EXT/ACMP0_O/TM2/nWRL, 24 PB.3/UART0_nCTS/TM3_EXT/SC2_CD/TM3/nWRH, 25 PD.6/CAN0_RXD, 26 PD.7/CAN0_TXD, 27 PD.14/UART2_RXD/CAN1_RXD, 28 PD.15/UART2_TXD/CAN1_TXD, 29 PC.3/SPI0_MOSI0/I2S_DO, 30 PC.2/SPI0_MISO0/I2S_DI, 31 PC.1/SPI0_CLK/I2S_BCLK, 32 PC.0/SPI0_SS0/I2S_LRCLK, 33 PC.11/SPI1_MOSI0, 34 PC.10/SPI1_MISO0, 35 PC.9/SPI1_CLK, 36 PC.8/SPI1_SS0/MCLK, 37 PA.15/PWM3/I2S_MCLK/SC2_PWR, 38 PA.14/PWM2/SC2_RST/AD15, 39 PA.13/PWM1/SC2_CLK/UART5_TXD/AD14, 40 PA.12/PWM0/SC2_DAT/UART5_RXD/AD13, 41 ICE_DAT, 42 ICE_CLK, 43 AVSS, 44 PA.0/ADC0/SC0_PWR, 45 PA.1/ADC1/SC0_RST/AD12, 46 PA.2/ADC2/SC0_CLK/UART3_TXD/AD11, 47 PA.3/ADC3/SC0_DAT/UART3_RXD/AD10, 48 PA.4/ADC4/AD9, 49 PA.5/ADC5/AD8, 50 PA.6/ADC6/AD7, 51 Vref, 52 AVDD, 53 PC.7/ACMP0_N/AD5, 54 PC.6/ACMP0_P/SC0_CD/AD4, 55 PC.15/ACMP1_N/AD3, 56 PC.14/ACMP1_P/AD2, 57 PB.15/INT1/TM0/TM0_EXT/AD6, 58 XT1_OUT/PF.0, 59 XT1_IN/PF.1, 60 nRESET, 61 VSS, 62 VDD, 63 PVSS, 64 PB.8/TM0/STADC/CLKO

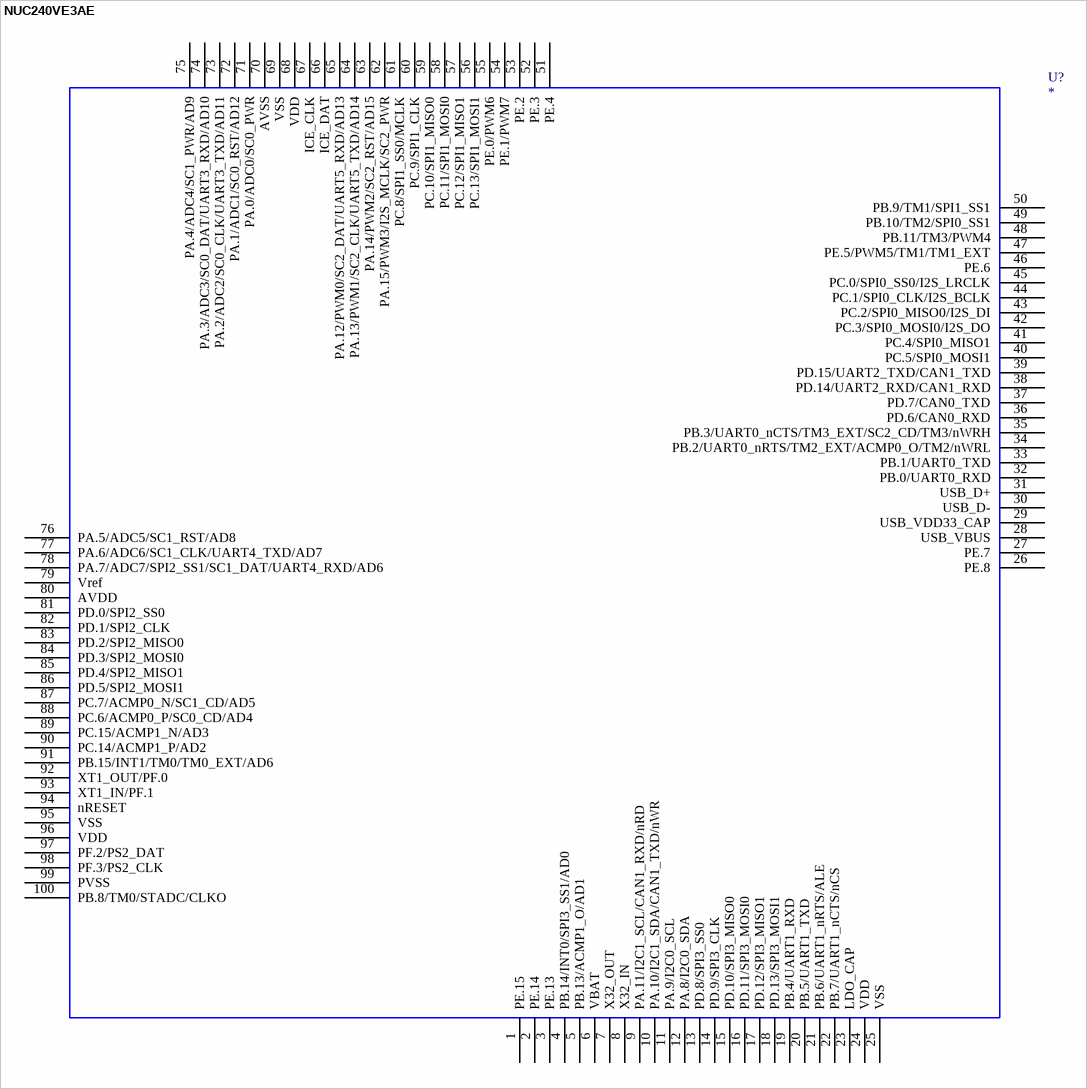
[diagram p13: symbol NUC240VE3AE]

## NUC240VE3AE
designator U?
OriginalSymbolOrigin: (0,0)
footprint MCU_LQFP_100 (Footprint not found)
pins: 1 PE.15, 2 PE.14, 3 PE.13, 4 PB.14/INT0/SPI3_SS1/AD0, 5 PB.13/ACMP1_O/AD1, 6 VBAT, 7 X32_OUT, 8 X32_IN, 9 PA.11/I2C1_SCL/CAN1_RXD/nRD, 10 PA.10/I2C1_SDA/CAN1_TXD/nWR, 11 PA.9/I2C0_SCL, 12 PA.8/I2C0_SDA, 13 PD.8/SPI3_SS0, 14 PD.9/SPI3_CLK, 15 PD.10/SPI3_MISO0, 16 PD.11/SPI3_MOSI0, 17 PD.12/SPI3_MISO1, 18 PD.13/SPI3_MOSI1, 19 PB.4/UART1_RXD, 20 PB.5/UART1_TXD, 21 PB.6/UART1_nRTS/ALE, 22 PB.7/UART1_nCTS/nCS, 23 LDO_CAP, 24 VDD, 25 VSS, 26 PE.8, 27 PE.7, 28 USB_VBUS, 29 USB_VDD33_CAP, 30 USB_D-, 31 USB_D+, 32 PB.0/UART0_RXD, 33 PB.1/UART0_TXD, 34 PB.2/UART0_nRTS/TM2_EXT/ACMP0_O/TM2/nWRL, 35 PB.3/UART0_nCTS/TM3_EXT/SC2_CD/TM3/nWRH, 36 PD.6/CAN0_RXD, 37 PD.7/CAN0_TXD, 38 PD.14/UART2_RXD/CAN1_RXD, 39 PD.15/UART2_TXD/CAN1_TXD, 40 PC.5/SPI0_MOSI1, 41 PC.4/SPI0_MISO1, 42 PC.3/SPI0_MOSI0/I2S_DO, 43 PC.2/SPI0_MISO0/I2S_DI, 44 PC.1/SPI0_CLK/I2S_BCLK, 45 PC.0/SPI0_SS0/I2S_LRCLK, 46 PE.6, 47 PE.5/PWM5/TM1/TM1_EXT, 48 PB.11/TM3/PWM4, 49 PB.10/TM2/SPI0_SS1, 50 PB.9/TM1/SPI1_SS1, 51 PE.4, 52 PE.3, 53 PE.2, 54 PE.1/PWM7, 55 PE.0/PWM6, 56 PC.13/SPI1_MOSI1, 57 PC.12/SPI1_MISO1, 58 PC.11/SPI1_MOSI0, 59 PC.10/SPI1_MISO0, 60 PC.9/SPI1_CLK, 61 PC.8/SPI1_SS0/MCLK, 62 PA.15/PWM3/I2S_MCLK/SC2_PWR, 63 PA.14/PWM2/SC2_RST/AD15, 64 PA.13/PWM1/SC2_CLK/UART5_TXD/AD14, 65 PA.12/PWM0/SC2_DAT/UART5_RXD/AD13, 66 ICE_DAT, 67 ICE_CLK, 68 VDD, 69 VSS, 70 AVSS, 71 PA.0/ADC0/SC0_PWR, 72 PA.1/ADC1/SC0_RST/AD12, 73 PA.2/ADC2/SC0_CLK/UART3_TXD/AD11, 74 PA.3/ADC3/SC0_DAT/UART3_RXD/AD10, 75 PA.4/ADC4/SC1_PWR/AD9, 76 PA.5/ADC5/SC1_RST/AD8, 77 PA.6/ADC6/SC1_CLK/UART4_TXD/AD7, 78 PA.7/ADC7/SPI2_SS1/SC1_DAT/UART4_RXD/AD6, 79 Vref, 80 AVDD, 81 PD.0/SPI2_SS0, 82 PD.1/SPI2_CLK, 83 PD.2/SPI2_MISO0, 84 PD.3/SPI2_MOSI0, 85 PD.4/SPI2_MISO1, 86 PD.5/SPI2_MOSI1, 87 PC.7/ACMP0_N/SC1_CD/AD5, 88 PC.6/ACMP0_P/SC0_CD/AD4, 89 PC.15/ACMP1_N/AD3, 90 PC.14/ACMP1_P/AD2, 91 PB.15/INT1/TM0/TM0_EXT/AD6, 92 XT1_OUT/PF.0, 93 XT1_IN/PF.1, 94 nRESET, 95 VSS, 96 VDD, 97 PF.2/PS2_DAT, 98 PF.3/PS2_CLK, 99 PVSS, 100 PB.8/TM0/STADC/CLKO